# Altium footprint library RES_0805.PcbLib: 1 footprints
Each footprint in its own frame and in the unit in brackets; x right, y up, seen from the top. Pads: shape width x height; smd on the part's side, far side on the other; paste and mask are expansions set on the pad; w line width, h text height; cw(c..) or ccw(c..) is an arc to the next point about the centre after c.
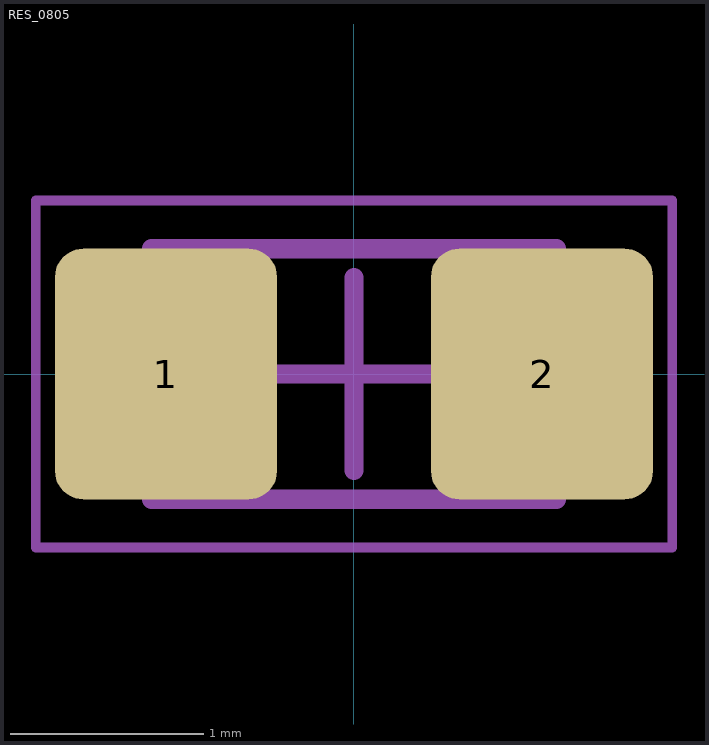
[diagram p0: the footprint, top view; thin cyan lines are the x and y axes]

## RES_0805 [mm]
pads (2):
  rrect25% 1.15x1.3 smd: 1(-0.975,0) 2(0.975,0)
Mechanical 13:
  lines w0.1: -1.05,-0.65 1.05,-0.65 1.05,0.65 -1.05,0.65 -1.05,-0.65
Mechanical 15:
  lines w0.05: -1.65,-0.9 1.65,-0.9 1.65,0.9 -1.65,0.9 -1.65,-0.9
  lines w0.1: -0.5,0 0.5,0 ; 0,-0.5 0,0.5
3D body "RES_0805_FW.step": height 0.6, standoff 0, extent -1.05,-0.65 1.05,0.65